# EAGLE library part 691401700016 (library Wurth_Elektronik_Electromechanic_Terminal_Blocks_Connectors_rev15c)
WR-TBL Terminal block - serie 401 5,0mm - Spring clamp/Screw less - Vertical entry - 16p Code:Con_TBL_Screwless_5.00_6914017000xx_691401700016 <http://katalog.we-online.de/media/images/eican/Con_TBL_Screwless_5.00_6914017000xx_pf2.jpg> Details see: http://katalog.we-online.de/en/em/691_401_700_0xx/691_401_700_016?m Created 2014-12-22, aslant tao 2014 (C) Würth Elektronik
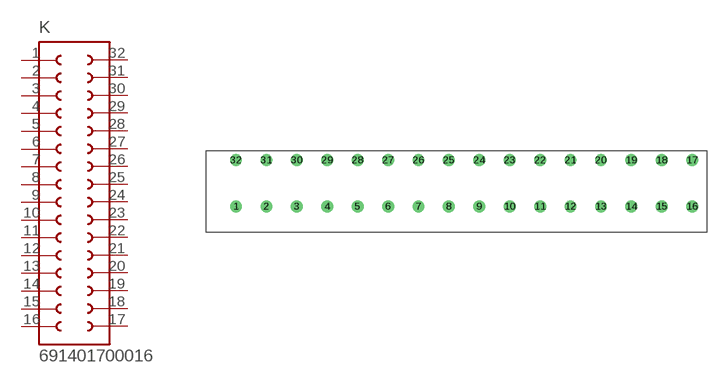
[diagram p272: symbol with the pads of 691401700016; footprint 691401700016]

Designator prefix K

## 691401700016  [691401700016]
1  1  pas
2  2  pas
3  3  pas
4  4  pas
5  5  pas
6  6  pas
7  7  pas
8  8  pas
9  9  pas
10  10  pas
11  11  pas
12  12  pas
13  13  pas
14  14  pas
15  15  pas
16  16  pas
17  17  pas
18  18  pas
19  19  pas
20  20  pas
21  21  pas
22  22  pas
23  23  pas
24  24  pas
25  25  pas
26  26  pas
27  27  pas
28  28  pas
29  29  pas
30  30  pas
31  31  pas
32  32  pas

## Footprint 691401700016 (pad centres in mm)
WR-TBL Serie 401 - 5.0mm Screwless Vertikal Entry - 2 mm2 Wires, 16 Pins
drill 1.3: 1 -5,0; 2 0,0; 3 5,0; 4 10,0; 5 15,0; 6 20,0; 7 25,0; 8 30,0; 9 35,0; 10 40,0; 11 45,0; 12 50,0; 13 55,0; 14 60,0; 15 65,0; 16 70,0; 17 70,7.62; 18 65,7.62; 19 60,7.62; 20 55,7.62; 21 50,7.62; 22 45,7.62; 23 40,7.62; 24 35,7.62; 25 30,7.62; 26 25,7.62; 27 20,7.62; 28 15,7.62; 29 10,7.62; 30 5,7.62; 31 0,7.62; 32 -5,7.62